# Altium schematic symbol library SCH - MCU - STM32 - ST MICROELECTRONICS STM32F373R(8-B-C)TX LQFP64.SchLib: 1 symbol
Pins are listed as number, name and electrical type; pins without a type are passive.

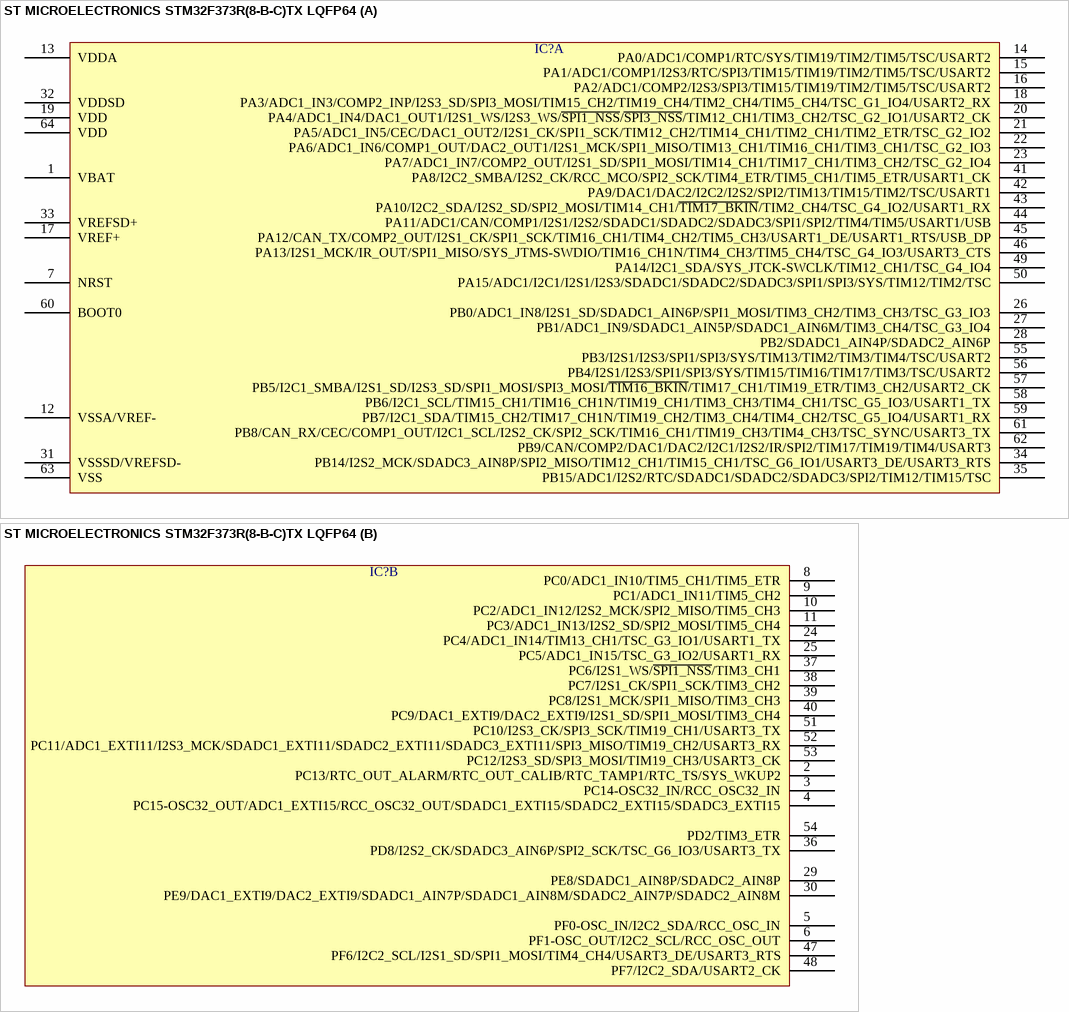
[diagram p0: symbol ST MICROELECTRONICS STM32F373R(8-B-C)TX LQFP64]

## ST MICROELECTRONICS STM32F373R(8-B-C)TX LQFP64
designator IC?  (value not drawn)
part A pins: 1 VBAT, 7 NRST, 12 VSSA/VREF-, 13 VDDA, 14 PA0/ADC1/COMP1/RTC/SYS/TIM19/TIM2/TIM5/TSC/USART2, 15 PA1/ADC1/COMP1/I2S3/RTC/SPI3/TIM15/TIM19/TIM2/TIM5/TSC/USART2, 16 PA2/ADC1/COMP2/I2S3/SPI3/TIM15/TIM19/TIM2/TIM5/TSC/USART2, 17 VREF+, 18 PA3/ADC1_IN3/COMP2_INP/I2S3_SD/SPI3_MOSI/TIM15_CH2/TIM19_CH4/TIM2_CH4/TIM5_CH4/TSC_G1_IO4/USART2_RX, 19 VDD, 20 PA4/ADC1_IN4/DAC1_OUT1/I2S1_WS/I2S3_WS/~{SPI1_NSS}/~{SPI3_NSS}/TIM12_CH1/TIM3_CH2/TSC_G2_IO1/USART2_CK, 21 PA5/ADC1_IN5/CEC/DAC1_OUT2/I2S1_CK/SPI1_SCK/TIM12_CH2/TIM14_CH1/TIM2_CH1/TIM2_ETR/TSC_G2_IO2, 22 PA6/ADC1_IN6/COMP1_OUT/DAC2_OUT1/I2S1_MCK/SPI1_MISO/TIM13_CH1/TIM16_CH1/TIM3_CH1/TSC_G2_IO3, 23 PA7/ADC1_IN7/COMP2_OUT/I2S1_SD/SPI1_MOSI/TIM14_CH1/TIM17_CH1/TIM3_CH2/TSC_G2_IO4, 26 PB0/ADC1_IN8/I2S1_SD/SDADC1_AIN6P/SPI1_MOSI/TIM3_CH2/TIM3_CH3/TSC_G3_IO3, 27 PB1/ADC1_IN9/SDADC1_AIN5P/SDADC1_AIN6M/TIM3_CH4/TSC_G3_IO4, 28 PB2/SDADC1_AIN4P/SDADC2_AIN6P, 31 VSSSD/VREFSD-, 32 VDDSD, 33 VREFSD+, 34 PB14/I2S2_MCK/SDADC3_AIN8P/SPI2_MISO/TIM12_CH1/TIM15_CH1/TSC_G6_IO1/USART3_DE/USART3_RTS, 35 PB15/ADC1/I2S2/RTC/SDADC1/SDADC2/SDADC3/SPI2/TIM12/TIM15/TSC, 41 PA8/I2C2_SMBA/I2S2_CK/RCC_MCO/SPI2_SCK/TIM4_ETR/TIM5_CH1/TIM5_ETR/USART1_CK, 42 PA9/DAC1/DAC2/I2C2/I2S2/SPI2/TIM13/TIM15/TIM2/TSC/USART1, 43 PA10/I2C2_SDA/I2S2_SD/SPI2_MOSI/TIM14_CH1/~{TIM17_BKIN}/TIM2_CH4/TSC_G4_IO2/USART1_RX, 44 PA11/ADC1/CAN/COMP1/I2S1/I2S2/SDADC1/SDADC2/SDADC3/SPI1/SPI2/TIM4/TIM5/USART1/USB, 45 PA12/CAN_TX/COMP2_OUT/I2S1_CK/SPI1_SCK/TIM16_CH1/TIM4_CH2/TIM5_CH3/USART1_DE/USART1_RTS/USB_DP, 46 PA13/I2S1_MCK/IR_OUT/SPI1_MISO/SYS_JTMS-SWDIO/TIM16_CH1N/TIM4_CH3/TIM5_CH4/TSC_G4_IO3/USART3_CTS, 49 PA14/I2C1_SDA/SYS_JTCK-SWCLK/TIM12_CH1/TSC_G4_IO4, 50 PA15/ADC1/I2C1/I2S1/I2S3/SDADC1/SDADC2/SDADC3/SPI1/SPI3/SYS/TIM12/TIM2/TSC, 55 PB3/I2S1/I2S3/SPI1/SPI3/SYS/TIM13/TIM2/TIM3/TIM4/TSC/USART2, 56 PB4/I2S1/I2S3/SPI1/SPI3/SYS/TIM15/TIM16/TIM17/TIM3/TSC/USART2, 57 PB5/I2C1_SMBA/I2S1_SD/I2S3_SD/SPI1_MOSI/SPI3_MOSI/~{TIM16_BKIN}/TIM17_CH1/TIM19_ETR/TIM3_CH2/USART2_CK, 58 PB6/I2C1_SCL/TIM15_CH1/TIM16_CH1N/TIM19_CH1/TIM3_CH3/TIM4_CH1/TSC_G5_IO3/USART1_TX, 59 PB7/I2C1_SDA/TIM15_CH2/TIM17_CH1N/TIM19_CH2/TIM3_CH4/TIM4_CH2/TSC_G5_IO4/USART1_RX, 60 BOOT0, 61 PB8/CAN_RX/CEC/COMP1_OUT/I2C1_SCL/I2S2_CK/SPI2_SCK/TIM16_CH1/TIM19_CH3/TIM4_CH3/TSC_SYNC/USART3_TX, 62 PB9/CAN/COMP2/DAC1/DAC2/I2C1/I2S2/IR/SPI2/TIM17/TIM19/TIM4/USART3, 63 VSS, 64 VDD
part B pins: 2 PC13/RTC_OUT_ALARM/RTC_OUT_CALIB/RTC_TAMP1/RTC_TS/SYS_WKUP2, 3 PC14-OSC32_IN/RCC_OSC32_IN, 4 PC15-OSC32_OUT/ADC1_EXTI15/RCC_OSC32_OUT/SDADC1_EXTI15/SDADC2_EXTI15/SDADC3_EXTI15, 5 PF0-OSC_IN/I2C2_SDA/RCC_OSC_IN, 6 PF1-OSC_OUT/I2C2_SCL/RCC_OSC_OUT, 8 PC0/ADC1_IN10/TIM5_CH1/TIM5_ETR, 9 PC1/ADC1_IN11/TIM5_CH2, 10 PC2/ADC1_IN12/I2S2_MCK/SPI2_MISO/TIM5_CH3, 11 PC3/ADC1_IN13/I2S2_SD/SPI2_MOSI/TIM5_CH4, 24 PC4/ADC1_IN14/TIM13_CH1/TSC_G3_IO1/USART1_TX, 25 PC5/ADC1_IN15/TSC_G3_IO2/USART1_RX, 29 PE8/SDADC1_AIN8P/SDADC2_AIN8P, 30 PE9/DAC1_EXTI9/DAC2_EXTI9/SDADC1_AIN7P/SDADC1_AIN8M/SDADC2_AIN7P/SDADC2_AIN8M, 36 PD8/I2S2_CK/SDADC3_AIN6P/SPI2_SCK/TSC_G6_IO3/USART3_TX, 37 PC6/I2S1_WS/~{SPI1_NSS}/TIM3_CH1, 38 PC7/I2S1_CK/SPI1_SCK/TIM3_CH2, 39 PC8/I2S1_MCK/SPI1_MISO/TIM3_CH3, 40 PC9/DAC1_EXTI9/DAC2_EXTI9/I2S1_SD/SPI1_MOSI/TIM3_CH4, 47 PF6/I2C2_SCL/I2S1_SD/SPI1_MOSI/TIM4_CH4/USART3_DE/USART3_RTS, 48 PF7/I2C2_SDA/USART2_CK, 51 PC10/I2S3_CK/SPI3_SCK/TIM19_CH1/USART3_TX, 52 PC11/ADC1_EXTI11/I2S3_MCK/SDADC1_EXTI11/SDADC2_EXTI11/SDADC3_EXTI11/SPI3_MISO/TIM19_CH2/USART3_RX, 53 PC12/I2S3_SD/SPI3_MOSI/TIM19_CH3/USART3_CK, 54 PD2/TIM3_ETR